# Altium footprint library TMDE_REV1.0.PcbLib: 84 footprints (part 2 of 6)
Each footprint in its own frame and in the unit in brackets; x right, y up, seen from the top. Pads: shape width x height; smd on the part's side, far side on the other; paste and mask are expansions set on the pad; w line width, h text height; cw(c..) or ccw(c..) is an arc to the next point about the centre after c.
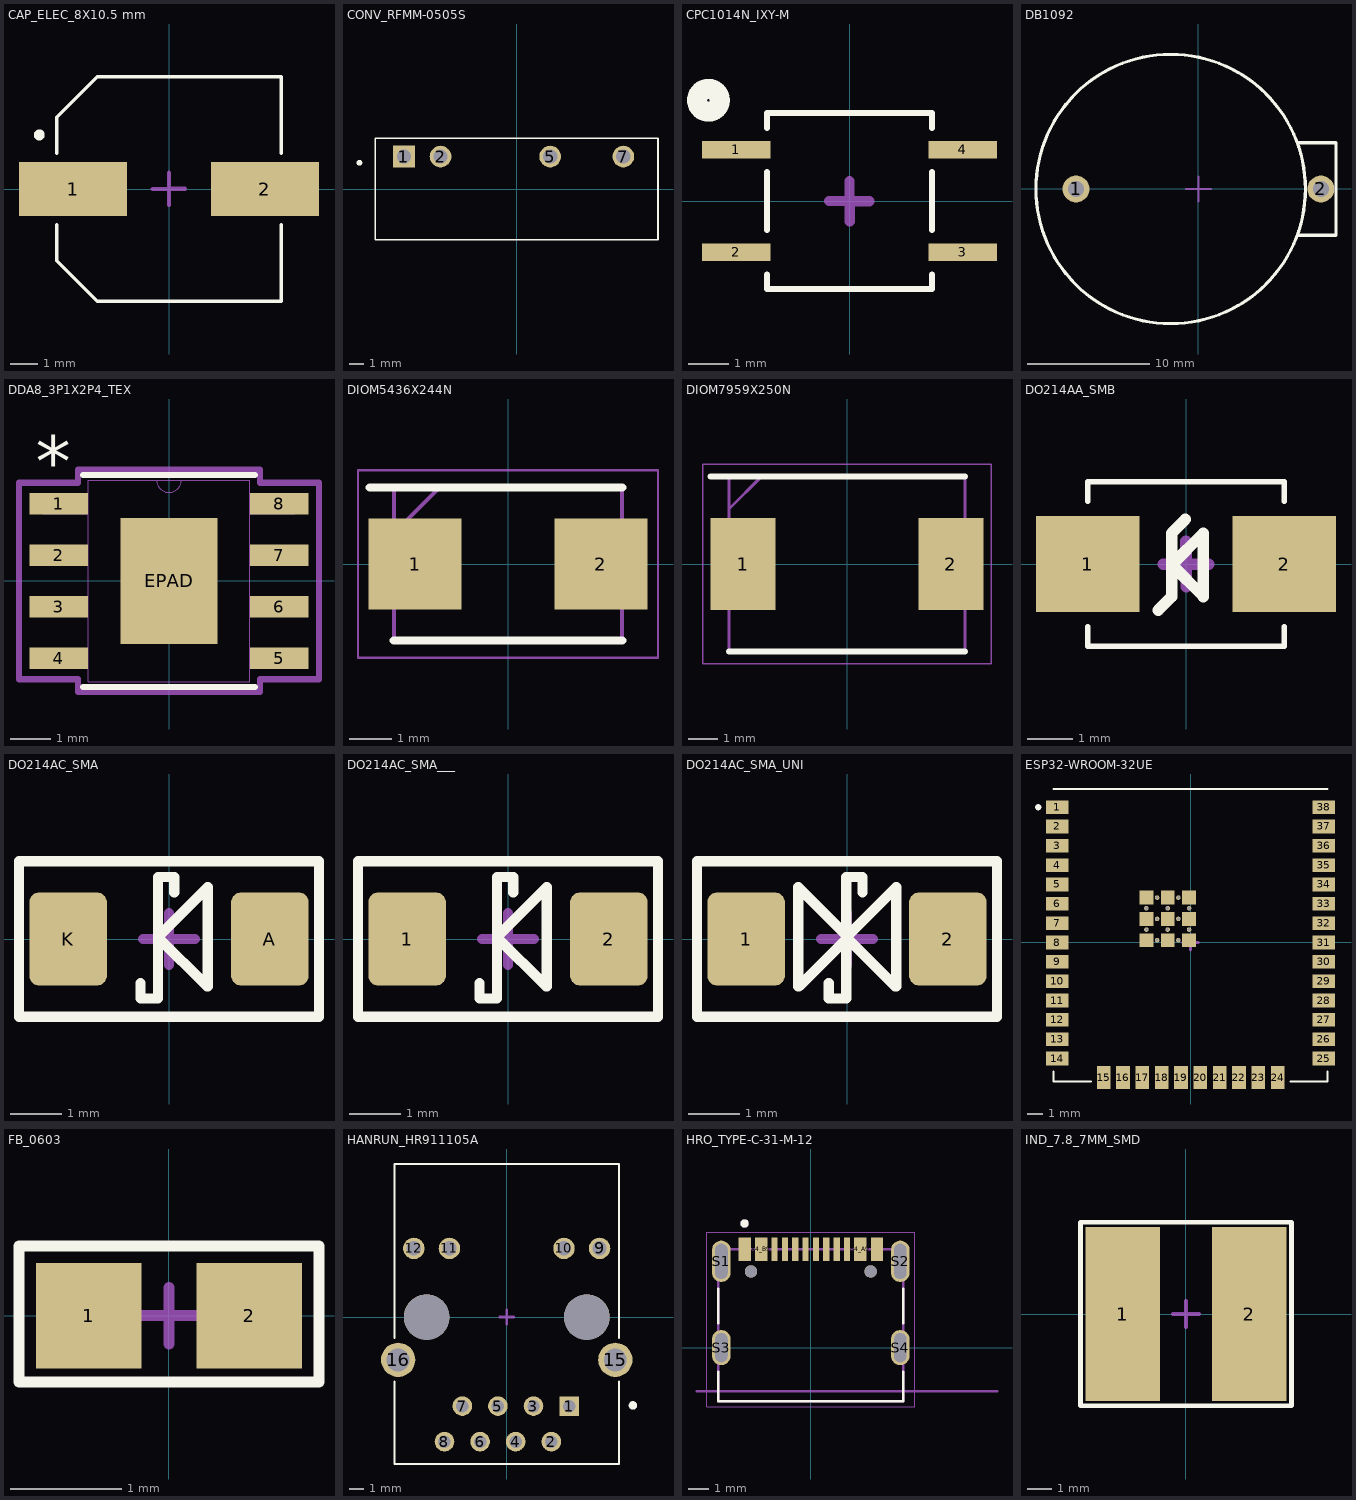
[diagram p1: the footprints below, top view; thin cyan lines are the x and y axes]

## CAP_ELEC_8X10.5 mm [mm]
pads (2):
  rect 4x2 smd: 1(-3.55,0) 2(3.55,0)
Top Overlay:
  circle w0.2: c-4.8,2 r0.1
  lines w0.127: -4.15,-1.32 -4.15,-2.65 -2.65,-4.15 4.15,-4.15 4.15,-1.32 ; -4.15,1.32 -4.15,2.65 -2.65,4.15 4.15,4.15 4.15,1.32
Mechanical 16:
  lines w0.152: -0.6,0 0,0 0,0.6 ; -0.007,0.008 0.593,0.008 ; -0.003,-0.596 -0.003,0.004
3D body "step_temp.STEP": height 10.2, standoff 0, extent -4.85,-4.15 4.85,4.15

## CONV_RFMM-0505S [mm]
pads (4):
  rect 1.508x1.508 hole 1: 1(-7.825,2.255)
  round 1.508 hole 1: 2(-5.285,2.255) 5(2.335,2.255) 7(7.415,2.255)
Top Overlay:
  circle w0.2: c-10.92,1.82 r0.1
  lines w0.127: -9.825,-3.525 9.825,-3.525 9.825,3.525 -9.825,3.525 -9.825,-3.525
3D body "RFMM-0505S--3DModel-STEP-1.STEP": height 9.7, standoff -4.6, extent -9.825,-3.55 9.825,3.5

## CPC1014N_IXY-M [mil]
pads (4):
  rect 67x17 smd paste+0 mask+0: 1(-110.5,50) 2(-110.5,-50) 3(110.5,-50) 4(110.5,50)
Top Overlay:
  circle w19.68: c-137.8,98.43 r11.14
  lines w6: -80.5,-71.6 -80.5,-86 80.5,-86 80.5,-71.6 ; -80.5,-28.4 -80.5,28.4 ; -80.5,71.6 -80.5,86 80.5,86 80.5,71.6 ; 80.5,-28.4 80.5,28.4
Mechanical 16:
  lines w10: -19.68,0 0,0 0,19.68 ; -0.07,-0.12 19.61,-0.12 ; 0.11,-19.8 0.11,-0.12
3D body "CPC1014N_IXY.step": height 85.12, standoff 0, extent -122.01,-80.98 122.01,80.98

## DB1092 [mm]
pads (2):
  round 2.2 hole 1.3: 1(-10,0) 2(10,0)
Top Overlay:
  circle w0.254: c-2.269,0 r11
  lines w0.254: 8.161,3.775 11.231,3.775 11.231,-3.775 8.207,-3.775
Mechanical 16:
  lines w0.2: -1,0 0,0 0,1 ; 0.001,-1.003 0.001,-0.003 ; 0.001,0.001 1.001,0.001
3D body "User Library-CR2032_HOR_HOLD.step": height 8.5, standoff -4, extent -13.269,-11 11.231,11

## DDA8_3P1X2P4_TEX [mm]
pads (9):
  rect 1.455x0.533 smd paste+0 mask+0: 1(-2.721,1.905) 2(-2.721,0.635) 3(-2.721,-0.635) 4(-2.721,-1.905) 5(2.721,-1.905) 6(2.721,-0.635) 7(2.721,0.635) 8(2.721,1.905)
  rect 2.4x3.1 smd paste-1.537 mask+0: EPAD(0,0)
Top Overlay:
  lines w0.152: -2.121,-2.616 2.121,-2.616 ; -2.121,2.616 2.121,2.616
  text "*" at -3.293,2.311 h1.27
Top Paste:
  region: 1.1,1.45 -1.1,1.45 -1.1,0.1 1.1,0.1
  region: 1.1,-0.1 -1.1,-0.1 -1.1,-1.45 1.1,-1.45
Mechanical 13:
  lines w0.025: -0.305,2.489 ccw(c0,2.489) 0.305,2.489 ; -3.099,-2.146 -3.099,-1.664 -1.994,-1.664 -1.994,-2.146 -3.099,-2.146 ; -3.099,-0.876 -3.099,-0.394 -1.994,-0.394 -1.994,-0.876 -3.099,-0.876 ; -3.099,0.394 -3.099,0.876 -1.994,0.876 -1.994,0.394 -3.099,0.394 ; -3.099,1.664 -3.099,2.146 -1.994,2.146 -1.994,1.664 -3.099,1.664 ; -1.994,-2.489 1.994,-2.489 1.994,2.489 -1.994,2.489 -1.994,-2.489 ; 1.994,-2.146 1.994,-1.664 3.099,-1.664 3.099,-2.146 1.994,-2.146 ; 1.994,-0.876 1.994,-0.394 3.099,-0.394 3.099,-0.876 1.994,-0.876 ; 1.994,0.394 1.994,0.876 3.099,0.876 3.099,0.394 1.994,0.394 ; 1.994,1.664 1.994,2.146 3.099,2.146 3.099,1.664 1.994,1.664
  text "*" at -1.93,1.143 h1.27
Mechanical 15:
  lines w0.152: -3.703,-2.425 -3.703,2.425 -2.248,2.425 -2.248,2.743 2.248,2.743 2.248,2.425 3.703,2.425 3.703,-2.425 2.248,-2.425 2.248,-2.743 -2.248,-2.743 -2.248,-2.425 -3.703,-2.425
3D body "DDA8_3P1X2P4_TEX.step": height 1.68, standoff -0.05, extent -3.099,-2.489 3.099,2.489

## DIOM5436X244N [mm]
pads (2):
  rect 2.2x2.15 smd: 1(-2.2,0) 2(2.2,0)
Top Overlay:
  lines w0.2: -3.275,1.81 2.7,1.81 ; -2.7,-1.81 2.7,-1.81
Mechanical 13:
  lines w0.1: -2.7,0.735 -1.625,1.81 ; -2.7,-1.81 2.7,-1.81 2.7,1.81 -2.7,1.81 -2.7,-1.81
Mechanical 15:
  lines w0.05: -3.55,-2.22 3.55,-2.22 3.55,2.22 -3.55,2.22 -3.55,-2.22
3D body "SMBJ12A.stp": height 2.44, standoff 0, extent -2.7,-1.81 2.7,1.81

## DIOM7959X250N [mm]
pads (2):
  rect 2.2x3.1 smd: 1(-3.5,0) 2(3.5,0)
Top Overlay:
  lines w0.2: -4.6,2.952 3.97,2.952 ; -3.97,-2.952 3.97,-2.952
Mechanical 13:
  lines w0.1: -3.97,1.852 -2.87,2.952 ; -3.97,-2.952 -3.97,2.952 3.97,2.952 3.97,-2.952 -3.97,-2.952
Mechanical 15:
  lines w0.05: -4.85,-3.36 -4.85,3.36 4.85,3.36 4.85,-3.36 -4.85,-3.36
3D body "B560CQ-13-F.stp": height 2.5, standoff 0, extent -3.898,-2.81 3.898,2.81

## DO214AA_SMB [mm]
pads (2):
  rect 2.28x2.12 smd: 1(-2.165,0) 2(2.165,0)
Top Overlay:
  lines w0.127: -2.163,-1.38 -2.163,-1.813 2.163,-1.813 2.163,-1.38 ; -2.163,1.38 -2.163,1.813 2.163,1.813 2.163,1.38
  lines w0.254: -0.616,-1.018 -0.316,-0.718 -0.316,-0.018 ; -0.016,0.982 -0.316,0.682 -0.316,-0.018 ; -0.316,-0.018 0.384,-0.718 0.384,0.682 ; -0.316,-0.018 0.384,0.682 ; 0.384,0.682 0.384,0.682
Mechanical 16:
  lines w0.254: -0.498,-0.001 0.002,-0.001 ; 0,0 0,0.5 ; 0.002,-0.501 0.002,-0.001 ; 0.502,-0.001 0.002,-0.001
3D body "User Library-DO-214AA_SMB.step": height 2.25, standoff 0, extent -2.7,-1.85 2.6,1.85

## DO214AC_SMA [mm]
pads (2):
  rrect25% 1.5x1.8 smd: A(1.95,0) K(-1.95,0)
Top Overlay:
  lines w0.2: -0.55,-0.85 -0.55,-1.15 -0.25,-1.15 ; -0.213,-1.15 -0.213,0.035 ; -0.213,1.2 -0.213,0.035 ; -0.2,1.2 0.1,1.2 0.1,0.9 ; 0.736,-0.914 -0.213,0.035 ; 0.75,-0.914 0.75,0.998 -0.213,0.035 ; -2.9,-1.5 2.9,-1.5 2.9,1.5 2.25,1.5 -2.9,1.5 -2.9,-1.5
Mechanical 16:
  lines w0.2: -0.499,-0.001 0.001,-0.001 ; 0,0 0,0.5 ; 0.001,-0.501 0.001,-0.001 ; 0.501,-0.001 0.001,-0.001
3D body "User Library-DO-214AC_SMA.step": height 2.2, standoff 0, extent -2.45,-1.3 2.55,1.4

## DO214AC_SMA___ [mm]
pads (2):
  rrect25% 1.5x1.8 smd: 1(-1.95,0) 2(1.95,0)
Top Overlay:
  lines w0.2: -0.55,-0.85 -0.55,-1.15 -0.25,-1.15 ; -0.213,-1.15 -0.213,0.035 ; -0.213,1.2 -0.213,0.035 ; -0.2,1.2 0.1,1.2 0.1,0.9 ; 0.736,-0.914 -0.213,0.035 ; 0.75,-0.914 0.75,0.998 -0.213,0.035 ; -2.9,-1.5 -2.9,1.5 2.25,1.5 2.9,1.5 2.9,-1.5 -2.9,-1.5
Mechanical 16:
  lines w0.2: -0.499,-0.001 0.001,-0.001 ; 0,0 0,0.5 ; 0.001,-0.501 0.001,-0.001 ; 0.501,-0.001 0.001,-0.001
3D body "User Library-DO-214AC_SMA.step": height 2.2, standoff 0, extent -2.45,-1.3 2.55,1.4

## DO214AC_SMA_UNI [mm]
pads (2):
  rrect25% 1.5x1.8 smd: 1(-1.95,0) 2(1.95,0)
Top Overlay:
  lines w0.2: -0.941,-0.914 -0.941,0.998 0.022,0.035 -0.927,-0.914 ; -0.35,-0.85 -0.35,-1.15 -0.05,-1.15 ; -0.013,-1.15 -0.013,0.035 ; -0.013,1.2 -0.013,0.035 ; 0,1.2 0.3,1.2 0.3,0.9 ; 0.936,-0.914 -0.013,0.035 ; 0.95,-0.914 0.95,0.998 -0.013,0.035 ; -2.9,-1.5 -2.9,1.5 2.25,1.5 2.9,1.5 2.9,-1.5 -2.9,-1.5
Mechanical 16:
  lines w0.2: -0.499,-0.001 0.001,-0.001 ; 0,0 0,0.5 ; 0.001,-0.501 0.001,-0.001 ; 0.501,-0.001 0.001,-0.001
3D body "User Library-DO-214AC_SMA.step": height 2.2, standoff 0, extent -2.45,-1.3 2.55,1.4

## ESP32-WROOM-32UE [mm]
pads (59):
  rect 1.5x0.9 smd: 1(-8.75,8.88) 2(-8.75,7.61) 3(-8.75,6.34) 4(-8.75,5.07) 5(-8.75,3.8) 6(-8.75,2.53) 7(-8.75,1.26) 8(-8.75,-0.01) 9(-8.75,-1.28) 10(-8.75,-2.55) 11(-8.75,-3.82) 12(-8.75,-5.09) 13(-8.75,-6.36) 14(-8.75,-7.63) 25(8.75,-7.63) 26(8.75,-6.36) 27(8.75,-5.09) 28(8.75,-3.82) 29(8.75,-2.55) 30(8.75,-1.28) 31(8.75,-0.01) 32(8.75,1.26) 33(8.75,2.53) 34(8.75,3.8) 35(8.75,5.07) 36(8.75,6.34) 37(8.75,7.61) 38(8.75,8.88)
  rect 0.9x1.5 smd: 15(-5.71,-8.88) 16(-4.44,-8.88) 17(-3.17,-8.88) 18(-1.9,-8.88) 19(-0.63,-8.88) 20(0.64,-8.88) 21(1.91,-8.88) 22(3.18,-8.88) 23(4.45,-8.88) 24(5.72,-8.88)
  rect 0.9x0.9 smd: 39_1(-2.9,2.94) 39_2(-1.5,2.94) 39_3(-0.1,2.94) 39_4(-2.9,1.54) 39_5(-1.5,1.54) 39_6(-0.1,1.54) 39_7(-2.9,0.14) 39_8(-1.5,0.14) 39_9(-0.1,0.14)
  round 0.3 hole 0.2: 39_10(-2.2,2.94) 39_11(-0.8,2.94) 39_12(-2.9,2.24) 39_13(-1.5,2.24) 39_14(-0.1,2.24) 39_15(-2.2,1.54) 39_16(-0.8,1.54) 39_17(-2.9,0.84) 39_18(-1.5,0.84) 39_19(-0.1,0.84) 39_20(-2.2,0.14) 39_21(-0.8,0.14)
Top Overlay:
  circle w0.2: c-10,8.87 r0.1
  lines w0.127: -9,-8.48 -9,-9.13 -6.55,-9.13 ; -9,10.07 9,10.07 ; 6.55,-9.13 9,-9.13 9,-8.48
Mechanical 13:
  circle w0.2: c-10,8.87 r0.1
Mechanical 16:
  lines w0.2: -0.517,0.001 -0.002,0.001 ; -0.002,-0.512 -0.002,0.003 0.514,0.003 ; 0,0 0,0.516
3D body "step_temp.STEP": height 3.35, standoff 0, extent -9,-9.13 9,10.07

## FB_0603 [mm]
pads (2):
  rect 0.95x0.95 smd mask+0.102: 1(-0.725,0) 2(0.725,0)
Top Overlay:
  lines w0.1: -1.355,-0.601 1.355,-0.601 1.355,0.631 -1.355,0.631 -1.355,-0.601
Mechanical 16:
  lines w0.1: -0.254,0 0.254,0 ; 0,-0.254 0,0.254
3D body "BK1608TS431-T.STEP": height 0.95, standoff 0, extent -0.775,-0.394 0.825,0.406

## HANRUN_HR911105A [mm]
pads (16):
  rect 1.398x1.398 / inner round 1.398 / far side rect 1.398x1.398 hole 0.89: 1(4.45,-6.35)
  round 1.398 hole 0.89: 2(3.18,-8.89) 3(1.91,-6.35) 4(0.64,-8.89) 5(-0.63,-6.35) 6(-1.9,-8.89) 7(-3.17,-6.35) 8(-4.44,-8.89)
  round 1.53 hole 1.02: 9(6.625,4.9) 10(4.085,4.9) 11(-4.085,4.9) 12(-6.625,4.9)
  round 2.445 hole 1.63: 15(7.745,-3.05) 16(-7.745,-3.05)
  round 3.25 hole 3.25 unplated: ""(-5.715,0) ""(5.715,0)
Top Overlay:
  circle w0.3: c9,-6.3 r0.15
  lines w0.127: -8,-4.6 -8,-10.48 8,-10.48 8,-4.6 ; -8,-1.5 -8,10.92 8,10.92 8,-1.5
Mechanical 16:
  lines w0.2: -0.498,0.003 0.002,0.003 ; -0.001,-0.497 -0.001,0.003 ; 0,0.5 0,0 0.5,0
3D body "step_temp.STEP": height 13.5, standoff -3.05, extent -8.02,-10.525 8.02,10.775

## HRO_TYPE-C-31-M-12 [mm]
height 3.26
pads (18):
  rect 0.6x1.14 smd mask+0.05: A1_B12(-3.2,4.75) A4_B9(-2.4,4.75) B1_A12(3.2,4.75) B4_A9(2.4,4.75)
  rect 0.3x1.14 smd mask+0.05: A5(-1.25,4.75) A6(-0.25,4.75) A7(0.25,4.75) A8(1.25,4.75) B5(1.75,4.75) B6(0.75,4.75) B7(-0.75,4.75) B8(-1.75,4.75)
  oval 0.9x2 hole 0.6 slot 1.7 at 90 deg: S1(-4.325,4.17) S2(4.325,4.17)
  oval 0.9x1.7 hole 0.6 slot 1.4 at 90 deg: S3(-4.325,0) S4(4.325,0)
  round 0.6 hole 0.6 unplated: ""(-2.89,3.68) ""(2.89,3.68)
Top Overlay:
  circle w0.2: c-3.2,6 r0.1
  lines w0.127: -4.47,-1.17 -4.47,-2.6 4.47,-2.6 4.47,-1.17 ; -4.47,1.17 -4.47,2.85 ; 4.47,1.17 4.47,2.85
Mechanical 13:
  circle w0.2: c-3.2,6 r0.1
  lines w0.127: -5.5,-2.11 9,-2.11 ; -4.47,-2.6 4.47,-2.6 4.47,4.75 -4.47,4.75 -4.47,-2.6
  text "PCB EDGE" at 5.2,-1.9 h0.61
Mechanical 15:
  lines w0.05: -5.025,-2.85 -5.025,5.57 5.025,5.57 5.025,-2.85 -5.025,-2.85
3D body "step_temp.STEP": height 3.31, standoff -0.99, extent -4.47,-2.6 4.47,5.305

## IND_7.8_7MM_SMD [mm]
pads (2):
  rect 3x7 smd: 1(-2.55,0) 2(2.55,0)
Top Overlay:
  lines w0.2: -4.25,-3.7 4.25,-3.7 4.25,3.7 -4.15,3.7 -4.25,3.7 -4.25,-3.7
Mechanical 16:
  lines w0.15: -0.524,0 0,0 ; 0,-0.524 0,0 ; 0,0.524 0,0 ; 0.524,0 0,0
3D body "SDE0805A.STP": height 5, standoff 0, extent -3.776,-3.5 3.876,3.5